# Altium footprint library PcbLib.PcbLib: 39 footprints (part 1 of 3)
Each footprint in its own frame and in the unit in brackets; x right, y up, seen from the top. Pads: shape width x height; smd on the part's side, far side on the other; paste and mask are expansions set on the pad; w line width, h text height; cw(c..) or ccw(c..) is an arc to the next point about the centre after c.
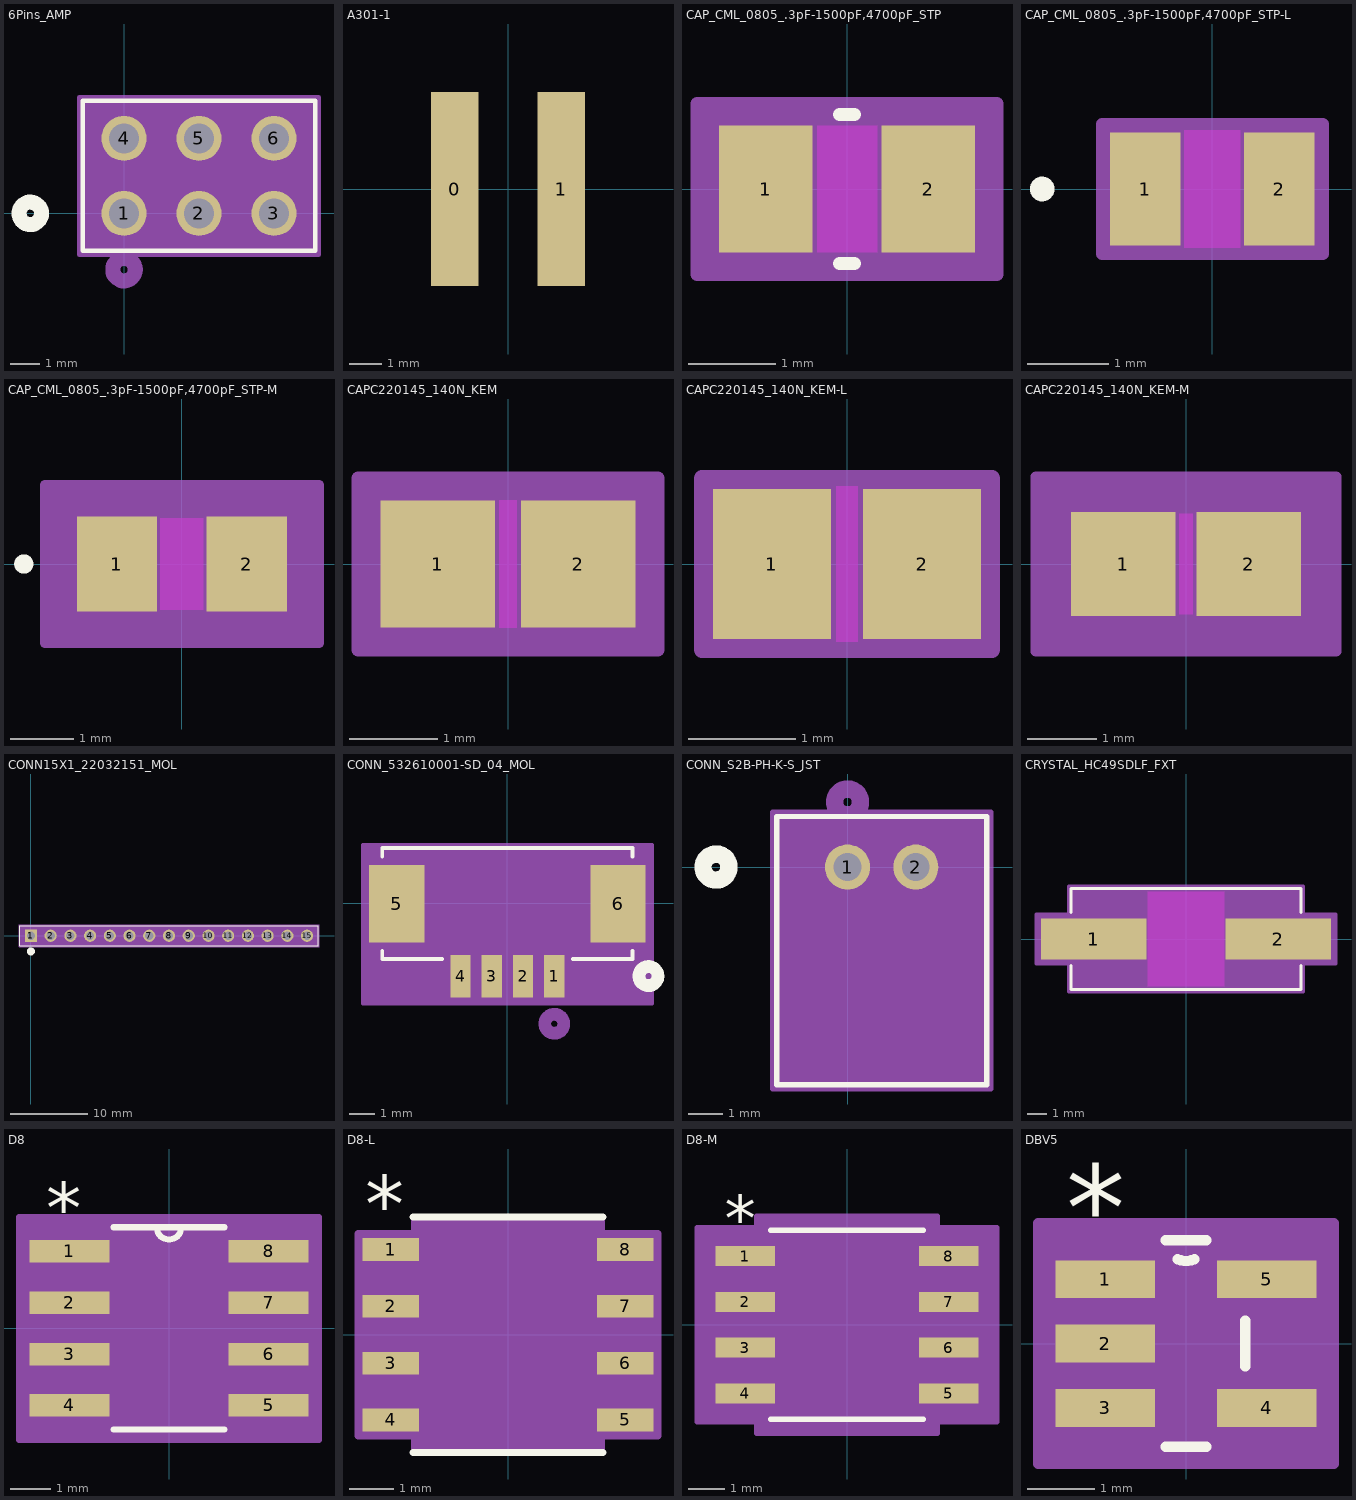
[diagram p0: the footprints below, top view; thin cyan lines are the x and y axes]

## 6Pins_AMP [mil]
pads (6):
  round 60 hole 40 paste-99999 mask+0: 1(0,0) 2(100,0) 3(200,0) 4(0,100) 5(100,100) 6(200,100)
Top Overlay:
  circle w20: c-125,0 r15
  lines w6: -55,-50 255,-50 255,150 -55,150 -55,-50
Bottom Overlay:
  circle w20: c-125,0 r15
Mechanical 13:
  circle w20: c0,-75 r15
  lines w1: -50,-45 250,-45 250,145 -50,145 -50,-45
Mechanical 15:
  region: 260,155 -60,155 -60,-55 260,-55
  lines w6: -60,-55 -60,155 260,155 260,-55 -60,-55
3D body "67997-x06.stp": height 331, standoff -119, extent -50,-45 250,145

## A301-1 [mil]
pads (2):
  rect 58x236.22 smd: 0(-65,0) 1(65,0)

## CAP_CML_0805_.3pF-1500pF,4700pF_STP [mil]
pads (2):
  rect 42x57 smd paste+0 mask+0: 1(-36.5,0) 2(36.5,0)
Top Layer keep-out:
  region: -13.5,-26.5 -13.5,26.5 13.5,26.5 13.5,-26.5
Top Overlay:
  lines w6: -3.39,-33.5 3.39,-33.5 ; -3.39,33.5 3.39,33.5
Keep-Out Layer:
  region: -13.5,-28.5 -13.5,28.5 13.5,28.5 13.5,-28.5
Mechanical 13:
  lines w1: -43.5,-28.5 -43.5,28.5 ; -43.5,-28.5 -15.5,-28.5 -15.5,28.5 -43.5,28.5 ; -43.5,-28.5 43.5,-28.5 ; -43.5,-28.5 -43.5,28.5 ; -43.5,28.5 43.5,28.5 ; 43.5,-28.5 15.5,-28.5 15.5,28.5 43.5,28.5 ; 43.5,-28.5 43.5,28.5 ; 43.5,-28.5 43.5,28.5
Mechanical 15:
  region: 67.5,-38.5 -67.5,-38.5 -67.5,38.5 67.5,38.5
  lines w6: -67.5,-38.5 -67.5,38.5 67.5,38.5 67.5,-38.5 -67.5,-38.5
3D body "CAP_CML_0805_3pF-1500pF4700pF_STP.step": height 30, standoff 0, extent -43.5,-28.5 43.5,28.5

## CAP_CML_0805_.3pF-1500pF,4700pF_STP-L [mil]
pads (2):
  rect 34x55 smd paste+0 mask+0: 1(-32.5,0) 2(32.5,0)
Top Layer keep-out:
  region: -13.5,-26.5 -13.5,26.5 13.5,26.5 13.5,-26.5
Top Overlay:
  circle w6: c-82.5,0 r3
Keep-Out Layer:
  region: -13.5,-28.5 -13.5,28.5 13.5,28.5 13.5,-28.5
Mechanical 13:
  circle w0: c-27.5,0 r3
  lines w1: -43.5,-28.5 -43.5,28.5 ; -43.5,-28.5 -15.5,-28.5 -15.5,28.5 -43.5,28.5 ; -43.5,-28.5 43.5,-28.5 ; -43.5,-28.5 -43.5,28.5 ; -43.5,28.5 43.5,28.5 ; 43.5,-28.5 15.5,-28.5 15.5,28.5 43.5,28.5 ; 43.5,-28.5 43.5,28.5 ; 43.5,-28.5 43.5,28.5
Mechanical 15:
  region: 53.5,-31.5 -53.5,-31.5 -53.5,31.5 53.5,31.5
  lines w6: -53.5,-31.5 -53.5,31.5 53.5,31.5 53.5,-31.5 -53.5,-31.5
3D body: height 10, standoff 0, extent 0,0 10,10

## CAP_CML_0805_.3pF-1500pF,4700pF_STP-M [mil]
pads (2):
  rect 50x59 smd paste+0 mask+0: 1(-40.5,0) 2(40.5,0)
Top Layer keep-out:
  region: -13.5,-26.5 -13.5,26.5 13.5,26.5 13.5,-26.5
Top Overlay:
  circle w6: c-98.5,0 r3
Keep-Out Layer:
  region: -13.5,-28.5 -13.5,28.5 13.5,28.5 13.5,-28.5
Mechanical 13:
  circle w0: c-35.5,0 r3
  lines w1: -43.5,-28.5 -43.5,28.5 ; -43.5,-28.5 43.5,-28.5 ; -43.5,-28.5 -15.5,-28.5 -15.5,28.5 -43.5,28.5 ; -43.5,-28.5 -43.5,28.5 ; -43.5,28.5 43.5,28.5 ; 43.5,-28.5 43.5,28.5 ; 43.5,-28.5 43.5,28.5 ; 43.5,-28.5 15.5,-28.5 15.5,28.5 43.5,28.5
Mechanical 15:
  region: 85.5,-49.5 -85.5,-49.5 -85.5,49.5 85.5,49.5
  lines w6: -85.5,-49.5 85.5,-49.5 85.5,49.5 -85.5,49.5 -85.5,-49.5
3D body: height 10, standoff 0, extent 0,0 10,10

## CAPC220145_140N_KEM [mm]
pads (2):
  rect 1.306x1.45 smd paste+0 mask+0: 1(-0.803,0) 2(0.803,0)
Top Layer keep-out:
  region: -0.099,-0.674 -0.099,0.674 0.099,0.674 0.099,-0.674
Keep-Out Layer:
  region: -0.099,-0.725 -0.099,0.725 0.099,0.725 0.099,-0.725
Mechanical 13:
  lines w0.025: -1.1,-0.725 -1.1,0.725 ; -1.1,-0.725 -0.35,-0.725 -0.35,0.725 -1.1,0.725 ; -1.1,-0.725 1.1,-0.725 ; -1.1,-0.725 -1.1,0.725 ; -1.1,0.725 1.1,0.725 ; 1.1,-0.725 0.35,-0.725 0.35,0.725 1.1,0.725 ; 1.1,-0.725 1.1,0.725 ; 1.1,-0.725 1.1,0.725
Mechanical 15:
  region: 1.71,-0.979 -1.71,-0.979 -1.71,0.979 1.71,0.979
  lines w0.152: -1.71,-0.979 -1.71,0.979 1.71,0.979 1.71,-0.979 -1.71,-0.979
3D body "CAPC220145_140N_KEM.step": height 1.4, standoff 0, extent -1.1,-0.725 1.1,0.725

## CAPC220145_140N_KEM-L [mil]
pads (2):
  rect 43.4x55.09 smd paste+0 mask+0: 1(-27.61,0) 2(27.61,0)
Top Layer keep-out:
  region: -3.91,-26.54 -3.91,26.54 3.91,26.54 3.91,-26.54
Keep-Out Layer:
  region: -3.91,-28.54 -3.91,28.54 3.91,28.54 3.91,-28.54
Mechanical 13:
  lines w1: -43.31,-28.54 -43.31,28.54 ; -43.31,-28.54 43.31,-28.54 ; -43.31,-28.54 -13.78,-28.54 -13.78,28.54 -43.31,28.54 ; -43.31,-28.54 -43.31,28.54 ; -43.31,28.54 43.31,28.54 ; 43.31,-28.54 43.31,28.54 ; 43.31,-28.54 43.31,28.54 ; 43.31,-28.54 13.78,-28.54 13.78,28.54 43.31,28.54
Mechanical 15:
  region: 53.31,-31.54 -53.31,-31.54 -53.31,31.54 53.31,31.54
  lines w6: -53.31,-31.54 53.31,-31.54 53.31,31.54 -53.31,31.54 -53.31,-31.54
3D body "CAPC220145_140N_KEM.step": height 55.12, standoff 0, extent -43.31,-28.54 43.31,28.54

## CAPC220145_140N_KEM-M [mil]
pads (2):
  rect 59.4x59.09 smd paste+0 mask+0: 1(-35.61,0) 2(35.61,0)
Top Layer keep-out:
  region: -3.91,-26.54 -3.91,26.54 3.91,26.54 3.91,-26.54
Keep-Out Layer:
  region: -3.91,-28.54 -3.91,28.54 3.91,28.54 3.91,-28.54
Mechanical 13:
  lines w1: -43.31,-28.54 -43.31,28.54 ; -43.31,-28.54 43.31,-28.54 ; -43.31,-28.54 -13.78,-28.54 -13.78,28.54 -43.31,28.54 ; -43.31,-28.54 -43.31,28.54 ; -43.31,28.54 43.31,28.54 ; 43.31,-28.54 43.31,28.54 ; 43.31,-28.54 43.31,28.54 ; 43.31,-28.54 13.78,-28.54 13.78,28.54 43.31,28.54
Mechanical 15:
  region: 85.31,-49.54 -85.31,-49.54 -85.31,49.54 85.31,49.54
  lines w6: -85.31,-49.54 85.31,-49.54 85.31,49.54 -85.31,49.54 -85.31,-49.54
3D body "CAPC220145_140N_KEM.step": height 55.12, standoff 0, extent -43.31,-28.54 43.31,28.54

## CONN15X1_22032151_MOL [mil]
pads (15):
  rect 62x62 / inner round 60 / far side rect 62x62 hole 42 paste-99999 mask+0: 1(0,0)
  round 62 / inner round 60 / far side round 62 hole 42 paste-99999 mask+0: 2(100,0) 3(200,0) 4(300,0) 5(400,0) 6(500,0) 7(600,0) 8(700,0) 9(800,0) 10(900,0) 11(1000,0) 12(1100,0) 13(1200,0) 14(1300,0) 15(1400,0)
Top Overlay:
  circle w20: c0,-79.5 r10
  lines w6: -55.5,-51.5 -55.5,51.5 1455.5,51.5 1455.5,-51.5 -55.5,-51.5
Mechanical 13:
  circle w0: c0,-31.5 r10
  lines w1: -50.5,-46.5 -50.5,46.5 1450.5,46.5 1450.5,-46.5 -50.5,-46.5
Mechanical 15:
  region: 1460.5,56.5 -60.5,56.5 -60.5,-56.5 1460.5,-56.5
  lines w6: -60.5,-56.5 1460.5,-56.5 1460.5,56.5 -60.5,56.5 -60.5,-56.5
3D body "CONN15X1_22032151_MOL.step": height 440, standoff -200, extent -50,-46.5 1450,46.5

## CONN_532610001-SD_04_MOL [mil]
pads (6):
  rect 32x67 smd paste+0 mask+0: 1(73.82,-114.35) 2(24.61,-114.35) 3(-24.61,-114.35) 4(-73.82,-114.35)
  rect 87x122 smd paste-61 mask-61: 5(-174.21,-0.18) 6(174.21,-0.18)
Top Overlay:
  circle w20: c222,-114.35 r15
  lines w6: -197,-74.28 -197,-87.5 -102.92,-87.5 ; -197,73.92 -197,87.5 197,87.5 197,73.92 ; 102.92,-87.5 197,-87.5 197,-74.28
Bottom Overlay:
  circle w20: c222,-114.35 r15
Mechanical 13:
  circle w20: c73.82,-189.35 r15
  lines w1: -192,-82.5 -192,82.5 192,82.5 192,-82.5 -192,-82.5
Mechanical 15:
  region: 227.71,92.5 -227.71,92.5 -227.71,-157.85 227.71,-157.85
  lines w6: -227.71,-157.85 227.71,-157.85 227.71,92.5 -227.71,92.5 -227.71,-157.85
3D body "532610471.stp": height 132.98, standoff -0.87, extent -199.8,-120 199.8,84.72

## CONN_S2B-PH-K-S_JST [mil]
pads (2):
  round 52 / inner round 60 / far side round 52 hole 32 paste-99999 mask+0: 1(0,0) 2(78.74,0)
Top Overlay:
  circle w20: c-151.63,0 r15
  lines w6: -81.63,-250.85 160.37,-250.85 160.37,58.15 -81.63,58.15 -81.63,-250.85
Bottom Overlay:
  circle w20: c-151.63,0 r15
Mechanical 13:
  circle w20: c0,75 r15
  lines w1: -76.63,-245.85 155.37,-245.85 155.37,53.15 -76.63,53.15 -76.63,-245.85
Mechanical 15:
  region: 165.37,63.15 -86.63,63.15 -86.63,-255.85 165.37,-255.85
  lines w6: -86.63,-255.85 -86.63,63.15 165.37,63.15 165.37,-255.85 -86.63,-255.85
3D body "S2B-PH-K-S.STEP": height 188.98, standoff -133.19, extent -76.14,-246.06 156.14,53.15

## CRYSTAL_HC49SDLF_FXT [mil]
pads (2):
  rect 216.5x83 smd paste+0 mask+0: 1(-188.75,0) 2(188.75,0)
Top Layer keep-out:
  region: -78.5,-96.5 -78.5,96.5 78.5,96.5 78.5,-96.5
Top Overlay:
  lines w6: -235.5,-54.6 -235.5,-103.5 235.5,-103.5 235.5,-54.6 ; -235.5,54.6 -235.5,103.5 235.5,103.5 235.5,54.6
Mechanical 13:
  lines w1: -230.5,-98.5 -230.5,98.5 230.5,98.5 230.5,-98.5 -230.5,-98.5
Mechanical 15:
  region: -240.5,-51.5 -307,-51.5 -307,51.5 -240.5,51.5 -240.5,108.5 240.5,108.5 240.5,51.5 307,51.5 307,-51.5 240.5,-51.5 240.5,-108.5 -240.5,-108.5
  lines w6: -307,-51.5 -240.5,-51.5 -240.5,-108.5 240.5,-108.5 240.5,-51.5 307,-51.5 307,51.5 240.5,51.5 240.5,108.5 -240.5,108.5 -240.5,51.5 -307,51.5 -307,-51.5
3D body "CRYSTAL_HC49SDLF_FXT.step": height 177.01, standoff 0, extent -230.51,-98.5 230.51,98.5

## D8 [mil]
pads (8):
  rect 78x22 smd paste-39 mask-39: 1(-97,75) 2(-97,25) 3(-97,-25) 4(-97,-75) 5(97,-75) 6(97,-25) 7(97,25) 8(97,75)
Top Overlay:
  lines w6: -54.08,-98.5 54.08,-98.5 ; -54.08,98.5 54.08,98.5 ; -12,98.5 ccw(c0,98.5) 12,98.5
  text "*" at -119.5,92 h50
Mechanical 13:
  lines w0: -12,98.5 ccw(c0,98.5) 12,98.5
  lines w1: -122,-85 -78.5,-85 -78.5,-65 -122,-65 -122,-85 ; -122,-35 -78.5,-35 -78.5,-15 -122,-15 -122,-35 ; -122,15 -78.5,15 -78.5,35 -122,35 -122,15 ; -122,65 -78.5,65 -78.5,85 -122,85 -122,65 ; -78.5,-98.5 -78.5,98.5 78.5,98.5 78.5,-98.5 -78.5,-98.5 ; 78.5,-85 122,-85 122,-65 78.5,-65 78.5,-85 ; 78.5,-35 122,-35 122,-15 78.5,-15 78.5,-35 ; 78.5,15 122,15 122,35 78.5,35 78.5,15 ; 78.5,65 122,65 122,85 78.5,85 78.5,65
  text "*" at -119.5,92 h50
Mechanical 15:
  region: 146,-108.5 -146,-108.5 -146,108.5 146,108.5
  lines w6: -146,-108.5 146,-108.5 146,108.5 -146,108.5 -146,-108.5
3D body "D8.step": height 69.09, standoff 0, extent -122.01,-98.5 122.01,98.5

## D8-L [mil]
pads (8):
  rect 49.5x20 smd paste+0 mask+0: 1(-103.25,75) 2(-103.25,25) 3(-103.25,-25) 4(-103.25,-75) 5(103.25,-75) 6(103.25,-25) 7(103.25,25) 8(103.25,75)
Top Overlay:
  lines w6: -83.5,-103.5 83.5,-103.5 ; -83.5,103.5 83.5,103.5
  text "*" at -125.75,90 h50
Mechanical 13:
  lines w0: -12,98.5 ccw(c0,98.5) 12,98.5
  lines w1: -122,-85 -122,-65 -78.5,-65 -78.5,-85 -122,-85 ; -122,-35 -122,-15 -78.5,-15 -78.5,-35 -122,-35 ; -122,15 -122,35 -78.5,35 -78.5,15 -122,15 ; -122,65 -122,85 -78.5,85 -78.5,65 -122,65 ; -78.5,-98.5 78.5,-98.5 78.5,98.5 -78.5,98.5 -78.5,-98.5 ; 78.5,-85 78.5,-65 122,-65 122,-85 78.5,-85 ; 78.5,-35 78.5,-15 122,-15 122,-35 78.5,-35 ; 78.5,15 78.5,35 122,35 122,15 78.5,15 ; 78.5,65 78.5,85 122,85 122,65 78.5,65
  text "*" at -76,45.5 h50
Mechanical 15:
  region: -82.5,-89 -132,-89 -132,89 -82.5,89 -82.5,102.5 82.5,102.5 82.5,89 132,89 132,-89 82.5,-89 82.5,-102.5 -82.5,-102.5
  lines w6: -132,-89 -132,89 -82.5,89 -82.5,102.5 82.5,102.5 82.5,89 132,89 132,-89 82.5,-89 82.5,-102.5 -82.5,-102.5 -82.5,-89 -132,-89
3D body "D8.step": height 69.09, standoff 0, extent -122.01,-98.5 122.01,98.5

## D8-M [mil]
pads (8):
  rect 65.5x22 smd paste+0 mask+0: 1(-111.25,75) 2(-111.25,25) 3(-111.25,-25) 4(-111.25,-75) 5(111.25,-75) 6(111.25,-25) 7(111.25,25) 8(111.25,75)
Top Overlay:
  lines w6: -83.5,-103.5 83.5,-103.5 ; -83.5,103.5 83.5,103.5
  text "*" at -133.75,92 h50
Mechanical 13:
  lines w0: -12,98.5 ccw(c0,98.5) 12,98.5
  lines w1: -122,-85 -122,-65 -78.5,-65 -78.5,-85 -122,-85 ; -122,-35 -122,-15 -78.5,-15 -78.5,-35 -122,-35 ; -122,15 -122,35 -78.5,35 -78.5,15 -122,15 ; -122,65 -122,85 -78.5,85 -78.5,65 -122,65 ; -78.5,-98.5 78.5,-98.5 78.5,98.5 -78.5,98.5 -78.5,-98.5 ; 78.5,-85 78.5,-65 122,-65 122,-85 78.5,-85 ; 78.5,-35 78.5,-15 122,-15 122,-35 78.5,-35 ; 78.5,15 78.5,35 122,35 122,15 78.5,15 ; 78.5,65 78.5,85 122,85 122,65 78.5,65
  text "*" at -76,45.5 h50
Mechanical 15:
  region: -98.5,-106 -164,-106 -164,106 -98.5,106 -98.5,118.5 98.5,118.5 98.5,106 164,106 164,-106 98.5,-106 98.5,-118.5 -98.5,-118.5
  lines w6: -164,-106 -164,106 -98.5,106 -98.5,118.5 98.5,118.5 98.5,106 164,106 164,-106 98.5,-106 98.5,-118.5 -98.5,-118.5 -98.5,-106 -164,-106
3D body "D8.step": height 69.09, standoff 0, extent -122.01,-98.5 122.01,98.5

## DBV5 [mil]
pads (5):
  rect 58x22 smd paste-29 mask-29: 1(-47,37.4) 2(-47,0) 3(-47,-37.4) 4(47,-37.4) 5(47,37.4)
Top Overlay:
  lines w6: -11.91,-60 11.91,-60 ; -11.91,60 11.91,60 ; -4.92,49.05 ccw(c0,60) 4.92,49.05 ; 34.5,-13.3 34.5,13.3
  text "*" at -69.5,54.4 h50
Mechanical 13:
  lines w0: -12,60 ccw(c0,60) 12,60
  lines w1: -59,-47.4 -34.5,-47.4 -34.5,-27.4 -59,-27.4 -59,-47.4 ; -59,-10 -34.5,-10 -34.5,10 -59,10 -59,-10 ; -59,27.4 -34.5,27.4 -34.5,47.4 -59,47.4 -59,27.4 ; -34.5,-60 -34.5,60 34.5,60 34.5,-60 -34.5,-60 ; 34.5,-47.4 59,-47.4 59,-27.4 34.5,-27.4 34.5,-47.4 ; 34.5,27.4 59,27.4 59,47.4 34.5,47.4 34.5,27.4
  text "*" at -69.5,54.4 h50
Mechanical 15:
  region: 86,-70 -86,-70 -86,70 86,70
  lines w6: -86,-70 86,-70 86,70 -86,70 -86,-70
3D body "DBV5.step": height 57.09, standoff 0, extent -59.02,-60 59.02,60